# Altium schematic symbol library ECS-TXO-2016.SchLib: 1 symbol
Pins are listed as number, name and electrical type; pins without a type are passive.

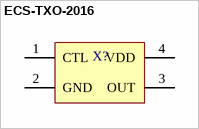
[diagram p0: symbol ECS-TXO-2016]

## ECS-TXO-2016
designator X?  (value not drawn)
pins: 1 CTL, 2 GND, 3 OUT, 4 VDD